# Altium footprint library Connector.PcbLib: 44 footprints (part 3 of 3)
Each footprint in its own frame and in the unit in brackets; x right, y up, seen from the top. Pads: shape width x height; smd on the part's side, far side on the other; paste and mask are expansions set on the pad; w line width, h text height; cw(c..) or ccw(c..) is an arc to the next point about the centre after c.
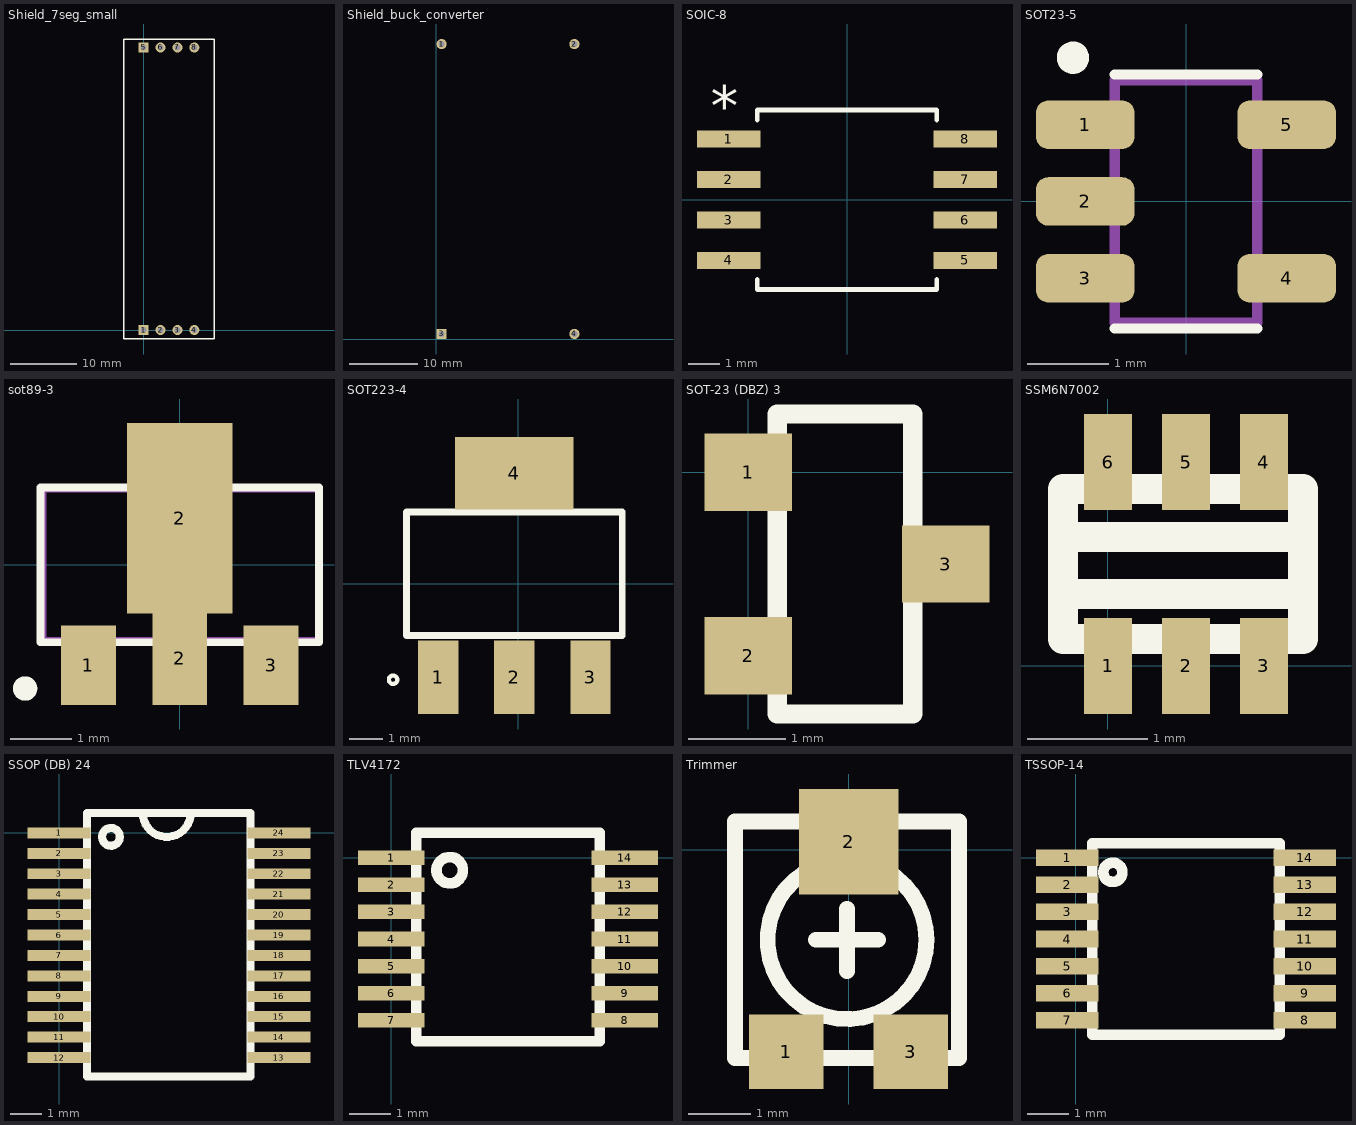
[diagram p2: the footprints below, top view; thin cyan lines are the x and y axes]

## Shield_7seg_small [mm] "Ecran 7seg"
pads (8):
  rect 1.5x1.5 hole 0.9: 1(0,0) 5(0,42.5)
  round 1.5 hole 0.9: 2(2.54,0) 3(5.08,0) 4(7.62,0) 6(2.54,42.5) 7(5.08,42.5) 8(7.62,42.5)
Top Overlay:
  lines w0.2: -3,43.725 -3,-1.35 10.625,-1.35 10.625,43.75 ; -3,43.77 10.625,43.77

## Shield_buck_converter [mm]
pads (4):
  round 1.5 hole 0.9: 1(0.75,43.25) 2(20.225,43.25) 4(20.225,0.75)
  rect 1.5x1.5 hole 0.9: 3(0.75,0.75)

## SOIC-8 [mil]
pads (8):
  rect 78.74x21 smd paste+0 mask+0: 1(-146,75) 2(-146,25) 3(-146,-25) 4(-146,-75) 5(146,-75) 6(146,-25) 7(146,25) 8(146,75)
Top Overlay:
  lines w6: -111,-98.6 -111,-111 111,-111 111,-98.6 ; -111,98.6 -111,111 111,111 111,98.6
  text "*" at -168.5,91 h50
3D body "WIN_SS-8_WIN.step": height 85.12, standoff 0, extent -154.48,-105.98 164.49,105.99
3D body: height 10, standoff 0, extent 0,0 10,10

## SOT23-5 [mm]
pads (5):
  rrect50% 1.22x0.6 smd: 1(-1.245,0.95) 2(-1.245,0) 3(-1.245,-0.95) 4(1.245,-0.95) 5(1.245,0.95)
Top Overlay:
  circle w0.2: c-1.397,1.778 r0.1
  lines w0.127: -0.88,-1.57 0.88,-1.57 ; -0.88,1.57 0.88,1.57
Mechanical 13:
  lines w0.127: -0.88,-1.5 0.88,-1.5 0.88,1.5 -0.88,1.5 -0.88,-1.5

## sot89-3 [mm]
pads (4):
  rect 0.9x1.3 smd: 1(-1.5,-1.65) 3(1.5,-1.65)
  rect 0.9x1.526 smd: 2(0,-1.537)
  rect 1.733x3.125 smd: 2(0,0.763)
Top Overlay:
  circle w0.2: c-2.54,-2.032 r0.1
  lines w0.127: -2.286,-1.27 -2.286,1.27 2.286,1.27 2.286,-1.27 -2.286,-1.27
Mechanical 13:
  lines w0.127: -2.25,-1.25 -2.25,1.25 2.286,1.25 2.286,-1.25 -2.25,-1.25

## SOT223-4 [mil]
pads (4):
  rect 48x88 smd: 1(-96,-112) 2(-5,-112) 3(86,-112)
  rect 141.73x86.61 smd: 4(-5,132.01)
Top Overlay:
  circle w5: c-150,-115 r5
  lines w8: -134,-62.01 124,-62.01 124,85.63 -134,85.63 -134,-62.01

## SOT-23 (DBZ) 3 [mm]
height 1.12
pads (3):
  rect 0.9x0.8 smd: 1(0,0) 2(0,-1.9) 3(2.04,-0.95)
Top Overlay:
  lines w0.2: 0.3,-2.5 1.7,-2.5 1.7,0.6 0.3,0.6 0.3,-2.5

## SSM6N7002 [mm] "N-Mosfet pair"
pads (6):
  rect 0.4x0.8 smd: 1(0,0) 2(0.65,0) 3(1.3,0) 4(1.3,1.7) 5(0.65,1.7) 6(0,1.7)
Top Overlay:
  lines w0.254: -0.375,0.6 1.6,0.6 ; -0.375,1.075 1.6,1.075 ; -0.375,0.225 1.625,0.225 1.625,1.475 -0.375,1.475 -0.375,0.85 -0.375,0.225

## SSOP (DB) 24 [mm] "SSOP (DB) 24"
height 2
pads (24):
  rect 2x0.35 smd: 1(0,0) 2(0,-0.65) 3(0,-1.3) 4(0,-1.95) 5(0,-2.6) 6(0,-3.25) 7(0,-3.9) 8(0,-4.55) 9(0,-5.2) 10(0,-5.85) 11(0,-6.5) 12(0,-7.15) 13(7,-7.15) 14(7,-6.5) 15(7,-5.85) 16(7,-5.2) 17(7,-4.55) 18(7,-3.9) 19(7,-3.25) 20(7,-2.6) 21(7,-1.95) 22(7,-1.3) 23(7,-0.65) 24(7,0)
Top Overlay:
  circle w0.254: c1.651,-0.127 r0.284
  lines w0.254: 2.667,0.635 ccw(c3.429,0.635) 4.191,0.635 ; 0.889,-7.747 0.889,0.635 6.096,0.635 6.096,-7.747 0.889,-7.747

## TLV4172 [mm] "14TSSOP"
height 1.2
pads (14):
  rect 1.6x0.35 smd: 1(0,0) 2(0,-0.65) 3(0,-1.3) 4(0,-1.95) 5(0,-2.6) 6(0,-3.25) 7(0,-3.9) 8(5.6,-3.9) 9(5.6,-3.25) 10(5.6,-2.6) 11(5.6,-1.95) 12(5.6,-1.3) 13(5.6,-0.65) 14(5.6,0)
Top Overlay:
  circle w0.254: c1.4,-0.3 r0.316
  lines w0.254: 0.6,-4.4 5,-4.4 5,0.6 0.6,0.6 0.6,-4.4

## Trimmer [mm] "surface_mount"
pads (3):
  rect 1.2x1.2 smd: 1(-1,-3.25) 3(1,-3.25)
  rect 1.6x1.7 smd: 2(0,0.125)
Top Overlay:
  circle w0.254: c-0.025,-1.45 r1.277
  lines w0.254: -0.025,-1.95 -0.025,-1.45 ; -0.025,-0.95 -0.025,-1.45 ; -0.025,-1.45 0.475,-1.45 -0.525,-1.45 -0.025,-1.45 ; -1.825,-3.35 -1.825,-1.45 -1.825,0.45 1.775,0.45 1.775,-3.35 -1.825,-3.35

## TSSOP-14 [mm] "TSSOP-14"
pads (14):
  rect 1.5x0.4 smd: 1(-0.2,0) 2(-0.2,-0.65) 3(-0.2,-1.3) 4(-0.2,-1.95) 5(-0.2,-2.6) 6(-0.2,-3.25) 7(-0.2,-3.9) 8(5.5,-3.9) 9(5.5,-3.25) 10(5.5,-2.6) 11(5.5,-1.95) 12(5.5,-1.3) 13(5.5,-0.65) 14(5.5,0)
Top Overlay:
  circle w0.254: c0.895,-0.35 r0.23
  lines w0.254: 0.4,-4.25 4.9,-4.25 4.9,0.35 0.4,0.35 0.4,-4.25